# Altium footprint library OptoDevice.PcbLib: 103 footprints (part 4 of 7)
Each footprint in its own frame and in the unit in brackets; x right, y up, seen from the top. Pads: shape width x height; smd on the part's side, far side on the other; paste and mask are expansions set on the pad; w line width, h text height; cw(c..) or ccw(c..) is an arc to the next point about the centre after c.
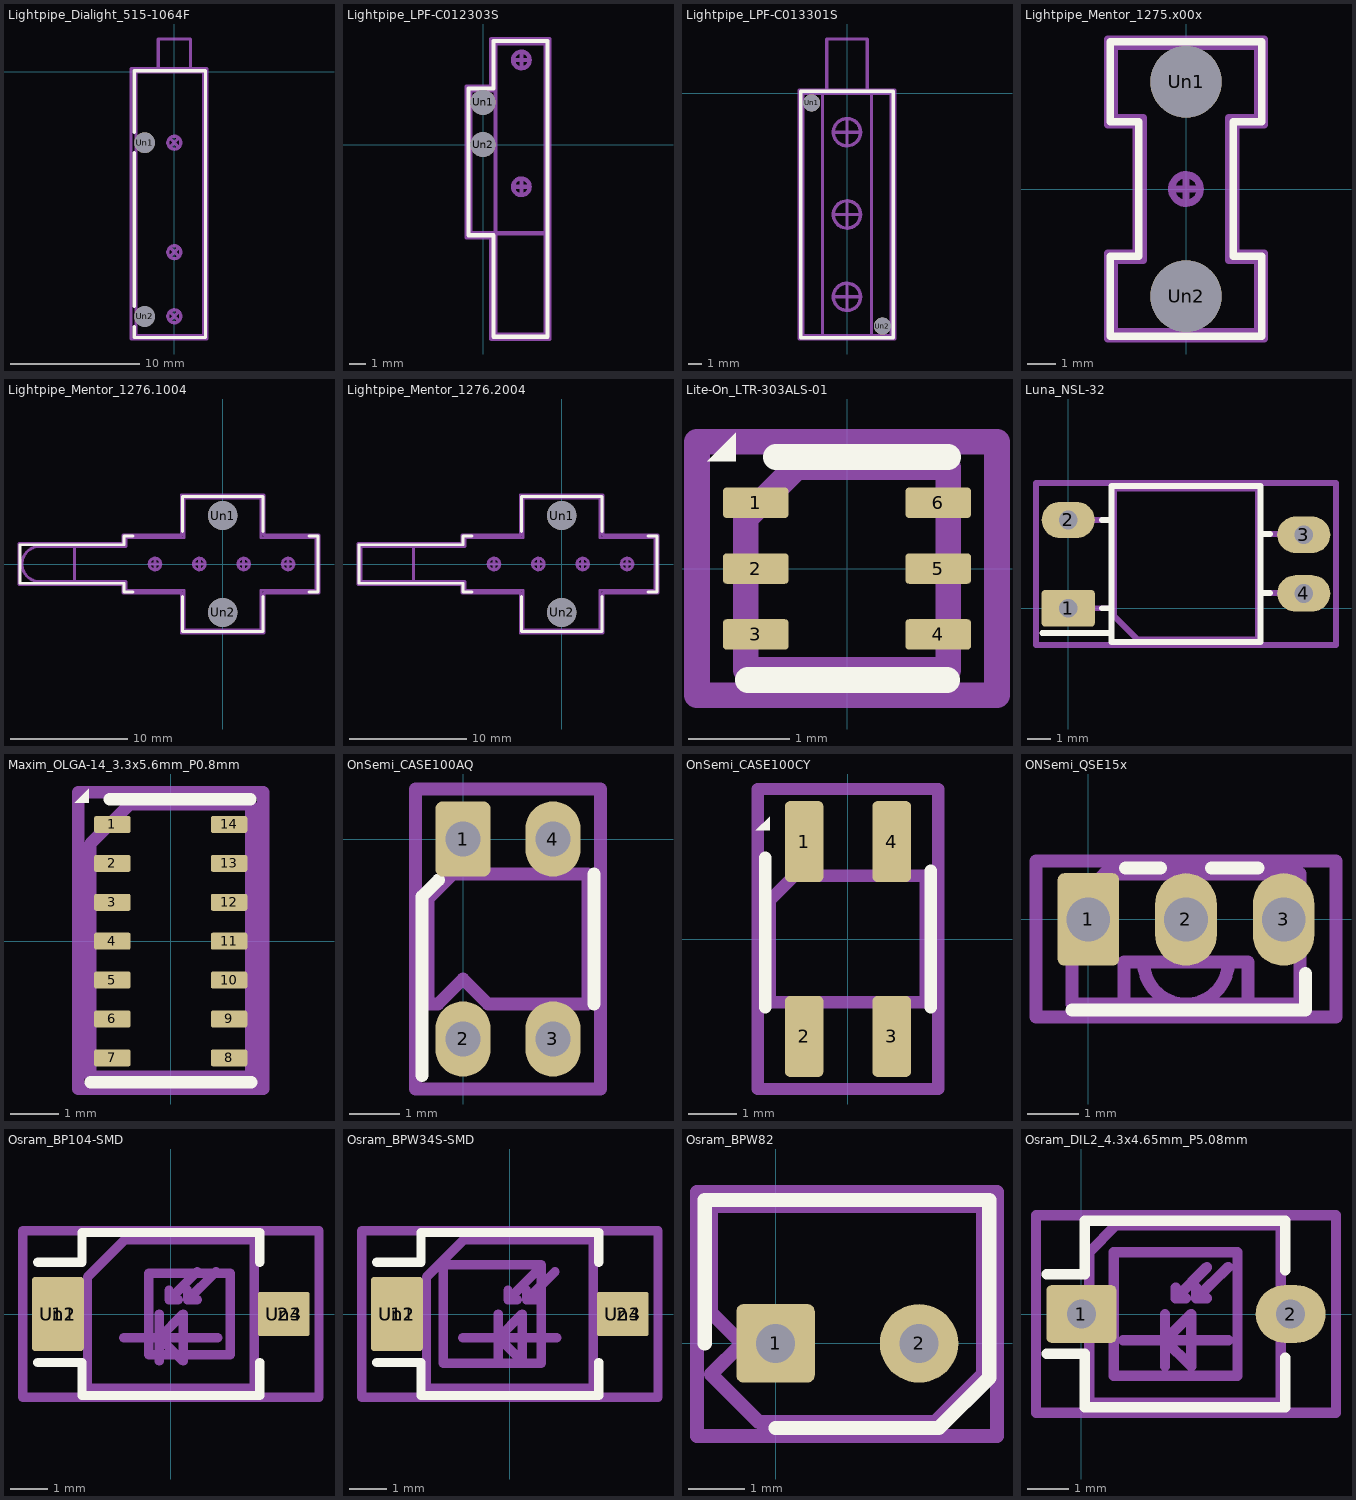
[diagram p3: the footprints below, top view; thin cyan lines are the x and y axes]

## Lightpipe_Dialight_515-1064F [mm]
pads (2):
  round 1.6 hole 1.6: Un1(-2.29,-5.46) Un2(-2.29,-18.87)
F.SilkS:
  lines w0.254: -3.1,-19.66 -3.1,-20.5 2.4,-20.5 ; -3.1,-18.1 -3.1,-6.23 ; -3.1,0.08 -3.09,-4.68 ; -3.1,0.1 2.4,0.1 2.4,-20.49
Top Assembly:
  lines w0.254: -1.25,0 -1.25,2.54 1.25,2.54 1.25,0 ; -2.95,-20.36 2.27,-20.36 2.27,0 -2.95,0 -2.95,-20.36
  text "'.Designator'" at -1.36,-16.747 h1
Top Courtyard:
  lines w0.254: -3.34,-20.61 2.52,-20.61 2.52,0.25 -3.34,0.25 -3.34,-20.61
Top Designator:
  text ".Designator" at -8.028,-9.543 h1.52
Dwgs.User:
  circle w0.254: c0,-18.86 r0.5
  circle w0.254: c0,-13.91 r0.5
  circle w0.254: c0,-5.46 r0.5
  lines w0.254: -0.35,-19.21 0.35,-18.51 ; -0.35,-18.51 0.35,-19.21 ; -0.35,-5.8 0.35,-5.1 ; -0.35,-5.1 0.35,-5.8 ; -0.325,-14.235 0.325,-13.585 ; -0.325,-13.585 0.325,-14.235

## Lightpipe_LPF-C012303S [mm]
pads (2):
  round 1.5 hole 1.5: Un1(0,2.54) Un2(0,0)
F.SilkS:
  lines w0.254: -0.875,-5.45 0.625,-5.45 0.625,-11.55 3.875,-11.55 3.875,6.225 0.625,6.225 0.625,3.375 -0.875,3.375 -0.875,-5.45
Top Assembly:
  circle w0.254: c2.305,-2.53 r0.5
  circle w0.254: c2.305,5.09 r0.5
  lines w0.254: 0.75,3.25 -0.75,3.25 -0.75,-5.33 3.75,-5.33 ; 1.805,-2.53 2.805,-2.53 ; 1.805,5.09 2.805,5.09 ; 2.305,-3.03 2.305,-2.03 ; 2.305,4.59 2.305,5.59 ; 0.75,-11.43 3.75,-11.43 3.75,6.1 0.75,6.1 0.75,-11.43
  text "'.Designator'" at 0.84,-7.047 h1
Top Courtyard:
  lines w0.254: -1,-5.58 0.5,-5.58 0.5,-11.68 4,-11.68 4,6.35 0.5,6.35 0.5,3.5 -1,3.5 -1,-5.58
Top Designator:
  text ".Designator" at -6.118,-3.173 h1.52

## Lightpipe_LPF-C013301S [mm]
pads (2):
  round 1.25 hole 1.25: Un1(-2.6,-0.7) Un2(2.6,-17.1)
F.SilkS:
  lines w0.254: -3.4,-17.95 3.4,-17.95 3.4,0.15 -3.4,0.15 -3.4,-17.95
Top Assembly:
  lines w0.254: -1.8,-17.8 -1.8,0 ; -1.5,0 -1.5,4 1.5,4 1.5,0 ; 1.8,-17.8 1.8,0 ; -3.25,-17.8 3.25,-17.8 3.25,0 -3.25,0 -3.25,-17.8
  text "'.Designator'" at -1.66,-13.347 h1
Top Courtyard:
  lines w0.254: -3.5,-18.05 3.5,-18.05 3.5,0.25 -3.5,0.25 -3.5,-18.05
Top Designator:
  text ".Designator" at -7.618,-7.533 h1.52
Dwgs.User:
  circle w0.254: c0,-14.95 r1
  circle w0.254: c0,-8.9 r1
  circle w0.254: c0,-2.85 r1
  lines w0.254: -1,-14.95 1,-14.95 ; -1,-8.9 1,-8.9 ; -1,-2.85 1,-2.85 ; 0,-15.95 0,-13.95 ; 0,-9.9 0,-7.9 ; 0,-3.85 0,-1.85

## Lightpipe_Mentor_1275.x00x [mm]
pads (2):
  round 2.5 hole 2.5: Un1(0,3.75) Un2(0,-3.75)
F.SilkS:
  lines w0.254: -2.65,-5.15 2.65,-5.15 2.65,-2.35 1.65,-2.35 1.65,2.35 2.65,2.35 2.65,5.15 -2.65,5.15 -2.65,2.35 -1.65,2.35 -1.65,-2.35 -2.65,-2.35 -2.65,-5.15
Top Assembly:
  circle w0.254: c0,0 r0.5
  lines w0.254: -0.5,0 0.5,0 ; 0,-0.5 0,0.5 ; -2.5,-5 2.5,-5 2.5,-2.5 1.5,-2.5 1.5,2.5 2.5,2.5 2.5,5 -2.5,5 -2.5,2.5 -1.5,2.5 -1.5,-2.5 -2.5,-2.5 -2.5,-5
  text "'.Designator'" at 0.078,-4.555 h1
Top Courtyard:
  lines w0.254: -2.75,-5.25 2.75,-5.25 2.75,-2.25 1.75,-2.25 1.75,2.25 2.75,2.25 2.75,5.25 -2.75,5.25 -2.75,2.25 -1.75,2.25 -1.75,-2.25 -2.75,-2.25 -2.75,-5.25
Top Designator:
  text ".Designator" at -7.618,-0.508 h1.52

## Lightpipe_Mentor_1276.1004 [mm]
pads (2):
  round 2.5 hole 2.5: Un1(0,4.15) Un2(0,-4.15)
F.SilkS:
  lines w0.254: -7.7,-2.4 -8.45,-2.4 -8.45,-1.65 -17.35,-1.65 -17.35,1.65 -8.45,1.65 -8.45,2.4 -7.7,2.4 ; -3.45,-2.8 -3.45,-5.8 3.45,-5.8 3.45,-2.8 ; -3.45,2.8 -3.45,5.8 3.45,5.8 3.45,2.8 ; 7.4,-2.4 8.15,-2.4 8.15,2.4 7.4,2.4
Top Assembly:
  circle w0.254: c5.6,0 r0.5
  circle w0.254: c1.8,0 r0.5
  circle w0.254: c-2,0 r0.5
  circle w0.254: c-5.8,0 r0.5
  lines w0.254: -12.7,-1.5 -12.7,1.5 ; -6.3,0 -5.3,0 ; -5.8,-0.5 -5.8,0.5 ; -2.5,0 -1.5,0 ; -2,-0.5 -2,0.5 ; 1.3,0 2.3,0 ; 1.8,-0.5 1.8,0.5 ; 5.1,0 6.1,0 ; 5.6,-0.5 5.6,0.5 ; -15.7,-1.5 cw(c-15.7,0) -15.7,1.5 -8.3,1.5 -8.3,2.25 -3.3,2.25 -3.3,5.65 3.3,5.65 3.3,2.25 8,2.25 8,-2.25 3.3,-2.25 3.3,-5.65 -3.3,-5.65 -3.3,-2.25 -8.3,-2.25 -8.3,-1.5 -15.7,-1.5
  text "'.Designator'" at -4.047,-2.34 h1
Top Courtyard:
  lines w0.254: -17.45,-1.75 -8.55,-1.75 -8.55,-2.5 -3.55,-2.5 -3.55,-5.9 3.55,-5.9 3.55,-2.5 8.25,-2.5 8.25,2.5 3.55,2.5 3.55,5.9 -3.55,5.9 -3.55,2.5 -8.55,2.5 -8.55,1.75 -17.45,1.75 -17.45,-1.75
Top Designator:
  text ".Designator" at -12.218,-0.508 h1.52

## Lightpipe_Mentor_1276.2004 [mm]
pads (2):
  round 2.5 hole 2.5: Un1(0,4.15) Un2(0,-4.15)
F.SilkS:
  lines w0.254: -7.7,-2.4 -8.45,-2.4 -8.45,-1.65 -17.35,-1.65 -17.35,1.65 -8.45,1.65 -8.45,2.4 -7.7,2.4 ; -3.45,-2.8 -3.45,-5.8 3.45,-5.8 3.45,-2.8 ; -3.45,2.8 -3.45,5.8 3.45,5.8 3.45,2.8 ; 7.4,-2.4 8.15,-2.4 8.15,2.4 7.4,2.4
Top Assembly:
  circle w0.254: c5.6,0 r0.5
  circle w0.254: c1.8,0 r0.5
  circle w0.254: c-2,0 r0.5
  circle w0.254: c-5.8,0 r0.5
  lines w0.254: -12.7,-1.5 -12.7,1.5 ; -6.3,0 -5.3,0 ; -5.8,-0.5 -5.8,0.5 ; -2.5,0 -1.5,0 ; -2,-0.5 -2,0.5 ; 1.3,0 2.3,0 ; 1.8,-0.5 1.8,0.5 ; 5.1,0 6.1,0 ; 5.6,-0.5 5.6,0.5 ; -17.2,-1.5 -8.3,-1.5 -8.3,-2.25 -3.3,-2.25 -3.3,-5.65 3.3,-5.65 3.3,-2.25 8,-2.25 8,2.25 3.3,2.25 3.3,5.65 -3.3,5.65 -3.3,2.25 -8.3,2.25 -8.3,1.5 -17.2,1.5 -17.2,-1.5
  text "'.Designator'" at -4.047,-2.34 h1
Top Courtyard:
  lines w0.254: -17.45,-1.75 -8.55,-1.75 -8.55,-2.5 -3.55,-2.5 -3.55,-5.9 3.55,-5.9 3.55,-2.5 8.25,-2.5 8.25,2.5 3.55,2.5 3.55,5.9 -3.55,5.9 -3.55,2.5 -8.55,2.5 -8.55,1.75 -17.45,1.75 -17.45,-1.75
Top Designator:
  text ".Designator" at -12.218,-0.508 h1.52

## Lite-On_LTR-303ALS-01 [mm]
pads (6):
  rrect25% 0.65x0.3 smd: 1(-0.9,0.65) 2(-0.9,0) 3(-0.9,-0.65) 4(0.9,-0.65) 5(0.9,0) 6(0.9,0.65)
F.SilkS:
  region: -1.1,1.06 -1.38,1.06 -1.1,1.34
  lines w0.254: -0.98,-1.1 0.99,-1.1 ; -0.7,1.1 1,1.1
Top Assembly:
  lines w0.254: -1,-1 1,-1 1,1 -0.5,1 -1,0.5 -1,-1
  text "'.Designator'" at -2.028,-0.425 h0.5
Top Courtyard:
  lines w0.254: -1.48,-1.25 1.48,-1.25 1.48,1.25 -1.48,1.25 -1.48,-1.25
Top Designator:
  text ".Designator" at -7.698,-0.508 h1.52

## Luna_NSL-32 [mm]
pads (4):
  rrect16% 2.29x1.57 hole 0.81: 1(0,0)
  rrect100% 2.29x1.57 hole 0.81: 2(0,3.81) 3(10.16,3.17) 4(10.16,0.64)
F.SilkS:
  lines w0.254: -1.12,-1.07 1.87,-1.07 ; 1.46,0 1.87,0 ; 1.46,3.8 1.87,3.8 ; 8.29,0.66 8.7,0.66 ; 8.29,3.21 8.7,3.21 ; 1.87,-1.45 8.29,-1.45 8.29,5.27 1.87,5.27 1.87,-1.45
Top Assembly:
  lines w0.254: -0.02,0 1.98,0 ; 0.03,3.8 1.98,3.8 ; 8.18,0.66 10.18,0.66 ; 8.18,3.21 10.18,3.21 ; 1.98,-0.34 2.98,-1.34 8.18,-1.34 8.18,5.16 1.98,5.16 1.98,-0.34
  text "'.Designator'" at 1.033,1.07 h1
Top Courtyard:
  lines w0.254: -1.39,-1.59 11.55,-1.59 11.55,5.41 -1.39,5.41 -1.39,-1.59
Top Designator:
  text ".Designator" at -2.538,1.402 h1.52

## Maxim_OLGA-14_3.3x5.6mm_P0.8mm [mm]
pads (14):
  rrect25% 0.75x0.35 smd: 1(-1.2,2.4) 2(-1.2,1.6) 3(-1.2,0.8) 4(-1.2,0) 5(-1.2,-0.8) 6(-1.2,-1.6) 7(-1.2,-2.4) 8(1.2,-2.4) 9(1.2,-1.6) 10(1.2,-0.8) 11(1.2,0) 12(1.2,0.8) 13(1.2,1.6) 14(1.2,2.4)
F.SilkS:
  region: -1.69,2.85 -1.97,2.85 -1.69,3.13
  lines w0.254: -1.65,-2.9 1.66,-2.9 ; -1.25,2.92 1.64,2.92
Top Assembly:
  lines w0.254: -1.65,-2.79 1.65,-2.79 1.65,2.81 -0.85,2.81 -1.65,2.01 -1.65,-2.79
  text "'.Designator'" at 0.588,-2.823 h0.7
Top Courtyard:
  lines w0.254: -1.9,-3.04 1.9,-3.04 1.9,3.06 -1.9,3.06 -1.9,-3.04
Top Designator:
  text ".Designator" at -7.618,-0.498 h1.52

## OnSemi_CASE100AQ [mm]
pads (4):
  rrect25% 1.1x1.5 hole 0.7: 1(0,0)
  rrect100% 1.1x1.5 hole 0.7: 2(0,-4) 3(1.8,-4) 4(1.8,0)
F.SilkS:
  lines w0.254: -0.82,-4.73 -0.82,-1.15 -0.49,-0.82 ; 2.62,-3.3 2.62,-0.7
Top Assembly:
  lines w0.254: -0.7,-3.3 -0.7,-1.2 -0.2,-0.7 2.5,-0.7 2.5,-3.3 0.5,-3.3 0,-2.8 -0.5,-3.3 -0.7,-3.3
  text "'.Designator'" at -2.133,-2.828 h0.75
Top Courtyard:
  lines w0.254: -0.95,-5 -0.95,1 2.75,1 2.75,-5 -0.95,-5
Top Designator:
  text ".Designator" at -6.828,-2.508 h1.52

## OnSemi_CASE100CY [mm]
pads (4):
  rrect25% 0.79x1.66 smd: 1(-0.9,2) 2(-0.9,-2) 3(0.9,-2) 4(0.9,2)
F.SilkS:
  region: -1.61,2.23 -1.89,2.23 -1.61,2.51
  lines w0.254: -1.7,-1.4 -1.7,1.67 ; 1.7,-1.4 1.7,1.4
Top Assembly:
  lines w0.254: -1.6,-1.3 1.6,-1.3 1.6,1.3 -1.1,1.3 -1.6,0.8 -1.6,-1.3
  text "'.Designator'" at -3.073,-0.868 h0.75
Top Courtyard:
  lines w0.254: -1.85,-3.08 1.85,-3.08 1.85,3.08 -1.85,3.08 -1.85,-3.08
Top Designator:
  text ".Designator" at -7.768,-0.508 h1.52
3D body "OnSemi_CASE100CY.step": height 1.45, standoff 0, extent -1.7,-2.4 1.7,2.4

## ONSemi_QSE15x [mm]
pads (3):
  rrect21% 1.2x1.8 hole 0.85: 1(0,0)
  rrect100% 1.2x1.8 hole 0.85: 2(1.9,0) 3(3.8,0)
F.SilkS:
  lines w0.254: -0.32,-1.76 4.23,-1.76 4.23,-1.05 ; 0.72,1 1.4,1 ; 2.4,1 3.3,1
Top Assembly:
  lines w0.254: 0.695,-1.65 0.695,-0.825 3.105,-0.825 3.105,-1.65 ; 1.075,-0.825 ccw(c1.9,-0.825) 1.9,-1.65 ccw(c1.9,-0.825) 2.725,-0.825 ; -0.32,-1.65 -0.32,0.255 0.315,0.89 4.12,0.89 4.12,-1.65 -0.32,-1.65
  text "'.Designator'" at -2.147,0.87 h1
Top Courtyard:
  lines w0.254: -1.02,-1.9 -1.02,1.14 4.82,1.14 4.82,-1.9 -1.02,-1.9
Top Designator:
  text ".Designator" at -5.868,-0.488 h1.52

## Osram_BP104-SMD [mm]
pads (6):
  rrect12% 1.4x2 smd: 1(-3.05,0)
  rrect12% 1.4x1.2 smd: 2(3.05,0)
  rrect12% 1.3x1.9 on Top Paste: Un1(-3.05,0)
  rrect12% 1.5x2.1 on Top Solder: Un2(-3.05,0)
  rrect12% 1.3x1.1 on Top Paste: Un3(3.05,0)
  rrect12% 1.5x1.3 on Top Solder: Un4(3.05,0)
F.SilkS:
  lines w0.254: -3.59,-1.31 -2.4,-1.31 -2.4,-2.2 2.4,-2.2 2.4,-1.31 ; -3.59,1.4 -2.41,1.4 ; -2.4,1.4 -2.4,2.2 2.4,2.2 2.4,1.4
Top Assembly:
  lines w0.254: -1.27,-0.64 1.27,-0.64 ; -0.31,-1.27 -0.31,0 ; -0.05,0.64 -0.05,0.38 ; 0.2,0.38 -0.05,0.38 ; 0.45,0.64 0.45,0.38 ; 0.71,0.38 0.45,0.38 ; 0.71,1.14 -0.05,0.38 ; 1.22,1.14 0.45,0.38 ; -2.25,-2 2.25,-2 2.25,2 -1.25,2 -2.25,1 -2.25,-2 ; -0.31,-0.64 0.33,-1.27 0.33,0 -0.31,-0.64
  text "'.Designator'" at -4.037,2.36 h1
Top Courtyard:
  lines w0.254: -4,-2.25 4,-2.25 4,2.25 -4,2.25 -4,-2.25
Top Designator:
  text ".Designator" at -7.647,0.082 h1.52
Cmts.User:
  lines w0.254: -0.6,-1.1 1.6,-1.1 1.6,1.1 -0.6,1.1 -0.6,-1.1

## Osram_BPW34S-SMD [mm]
pads (6):
  rrect12% 1.4x2 smd: 1(-3.05,0)
  rrect12% 1.4x1.2 smd: 2(3.05,0)
  rrect12% 1.3x1.9 on Top Paste: Un1(-3.05,0)
  rrect12% 1.5x2.1 on Top Solder: Un2(-3.05,0)
  rrect12% 1.3x1.1 on Top Paste: Un3(3.05,0)
  rrect12% 1.5x1.3 on Top Solder: Un4(3.05,0)
F.SilkS:
  lines w0.254: -3.59,-1.31 -2.4,-1.31 -2.4,-2.2 2.4,-2.2 2.4,-1.31 ; -3.59,1.4 -2.41,1.4 ; -2.4,1.4 -2.4,2.2 2.4,2.2 2.4,1.4
Top Assembly:
  lines w0.254: -1.27,-0.64 1.27,-0.64 ; -0.31,-1.27 -0.31,0 ; -0.05,0.64 -0.05,0.38 ; 0.2,0.38 -0.05,0.38 ; 0.45,0.64 0.45,0.38 ; 0.71,0.38 0.45,0.38 ; 0.71,1.14 -0.05,0.38 ; 1.22,1.14 0.45,0.38 ; -2.25,-2 2.25,-2 2.25,2 -1.25,2 -2.25,1 -2.25,-2 ; -0.31,-0.64 0.33,-1.27 0.33,0 -0.31,-0.64
  text "'.Designator'" at -4.037,2.36 h1
Top Courtyard:
  lines w0.254: -4,-2.25 4,-2.25 4,2.25 -4,2.25 -4,-2.25
Top Designator:
  text ".Designator" at -7.647,0.082 h1.52
Cmts.User:
  lines w0.254: -1.8,-1.325 0.85,-1.325 0.85,1.325 -1.8,1.325 -1.8,-1.325

## Osram_BPW82 [mm]
pads (2):
  rrect18% 1.4x1.4 hole 0.7: 1(0,0)
  round 1.4 hole 0.7: 2(2.56,0)
F.SilkS:
  lines w0.254: -1.26,0 -1.26,2.56 3.81,2.56 3.81,-0.61 2.91,-1.51 0,-1.51
Top Assembly:
  lines w0.254: -1.15,-0.55 -0.3,-1.4 2.85,-1.4 3.7,-0.55 3.7,2.45 -1.15,2.45 -1.15,0.55 -0.6,0 -1.15,-0.55
  text "'.Designator'" at -2.772,-0.315 h1
Top Courtyard:
  lines w0.254: -1.4,-1.65 3.95,-1.65 3.95,2.7 -1.4,2.7 -1.4,-1.65
Top Designator:
  text ".Designator" at -6.493,0.017 h1.52

## Osram_DIL2_4.3x4.65mm_P5.08mm [mm]
pads (2):
  rrect18% 1.7x1.4 hole 0.7: 1(0,0)
  rrect100% 1.7x1.4 hole 0.7: 2(5.08,0)
F.SilkS:
  lines w0.254: -0.84,-0.96 0.08,-0.96 0.08,-2.26 4.95,-2.26 4.95,-1.06 ; -0.84,0.96 0.08,0.96 0.08,2.26 4.95,2.26 4.95,1.06
Top Assembly:
  lines w0.254: 1.02,-0.64 3.56,-0.64 ; 2.03,-1.27 2.03,0 ; 2.29,0.64 2.29,0.38 ; 2.54,0.38 2.29,0.38 ; 2.79,0.64 2.79,0.38 ; 3.05,0.38 2.79,0.38 ; 3.05,1.14 2.29,0.38 ; 3.56,1.14 2.79,0.38 ; 0.19,-2.15 0.19,1.5 0.84,2.15 4.84,2.15 4.84,-2.15 0.19,-2.15 ; 0.79,-1.5 0.79,1.5 3.79,1.5 3.79,-1.5 0.79,-1.5 ; 2.03,-0.64 2.67,0 2.67,-1.27 2.03,-0.64
  text "'.Designator'" at -1.507,2.33 h1
Top Courtyard:
  lines w0.254: -1.1,-2.4 -1.1,2.4 6.18,2.4 6.18,-2.4 -1.1,-2.4
Top Designator:
  text ".Designator" at -5.228,-0.008 h1.52